# EAGLE library part 61002411921 (library Board-to-Board (rev18a))
WR-PHD 2.54mm SMT Socket Header, 24 Pins=>Code : CON_BTB_SHD_2.54_1_SMT_61002411921 <http://katalog.we-online.de/media/images/eican/Con_BTB_SHD_2.54_1_SMT_6100xx11921_pf2.jpg> Details see: http://katalog.we-online.de/en/em/PHD_2_54_SMT_SOCKET_HEADER_6100XXXXX21 Created 2014-05-09, Karrer Zheng 2014 (C) Würth Elektronik
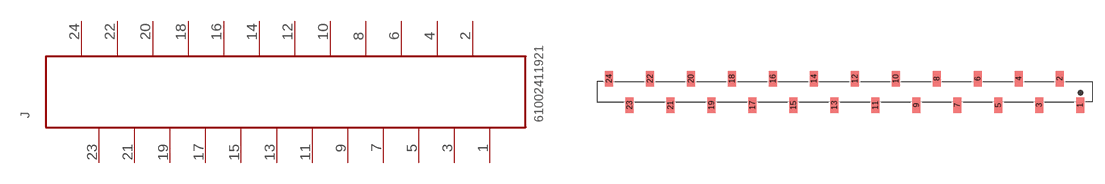
[diagram p192: symbol with the pads of 61002411921; footprint 61002411921]

Designator prefix J

## 61002411921  [61002411921]
1  1  pas
2  2  pas
3  3  pas
4  4  pas
5  5  pas
6  6  pas
7  7  pas
8  8  pas
9  9  pas
10  10  pas
11  11  pas
12  12  pas
13  13  pas
14  14  pas
15  15  pas
16  16  pas
17  17  pas
18  18  pas
19  19  pas
20  20  pas
21  21  pas
22  22  pas
23  23  pas
24  24  pas

## Footprint 61002411921 (pad centres in mm)
WR-PHD 2.54mm SMT Socket Header, 24 Pins
smd 1 x 1.91: 1 26.67,-1.645; 2 24.13,1.645; 3 21.59,-1.645; 4 19.05,1.645; 5 16.51,-1.645; 6 13.97,1.645; 7 11.43,-1.645; 8 8.89,1.645; 9 6.35,-1.645; 10 3.81,1.645; 11 1.27,-1.645; 12 -1.27,1.645; 13 -3.81,-1.645; 14 -6.35,1.645; 15 -8.89,-1.645; 16 -11.43,1.645; 17 -13.97,-1.645; 18 -16.51,1.645; 19 -19.05,-1.645; 20 -21.59,1.645; 21 -24.13,-1.645; 22 -26.67,1.645; 23 -29.21,-1.645; 24 -31.75,1.645